# Altium schematic symbol library SCH - POWER - SWITCHMODE - TI TPS62100_D_8.SchLib: 1 symbol
Pins are listed as number, name and electrical type; pins without a type are passive.

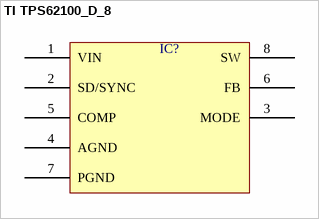
[diagram p0: symbol TI TPS62100_D_8]

## TI TPS62100_D_8
designator IC?  (value not drawn)
pins: 1 VIN, 2 SD/SYNC, 3 MODE, 4 AGND, 5 COMP, 6 FB, 7 PGND, 8 SW